# EAGLE library part PAN1326B (library panasonic)
BLUETOOTH MODULE
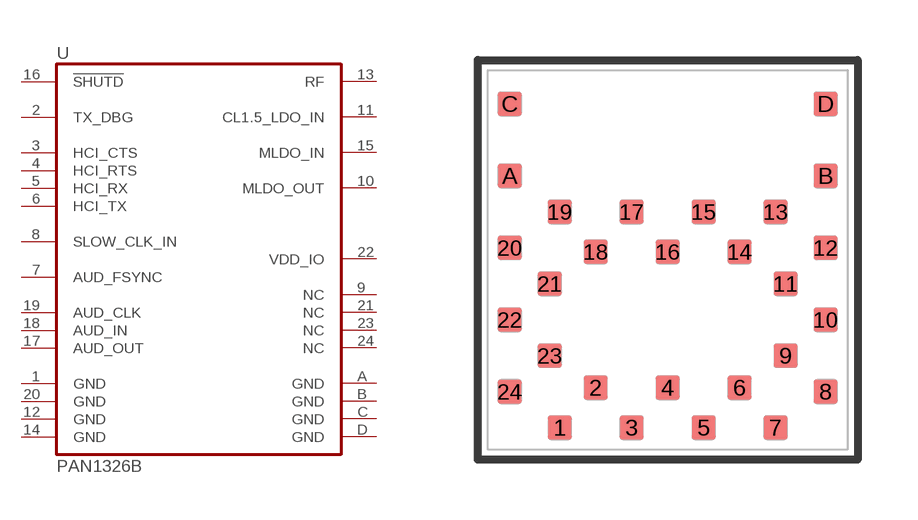
[diagram p2: symbol with the pads of PAN1326B; footprint PAN1326B]

Designator prefix U

## PAN1326B  [PAN1326B]
1  GND  pwr
2  TX_DBG  out
3  HCI_CTS  in
4  HCI_RTS  out
5  HCI_RX  in
6  HCI_TX  out
7  AUD_FSYNC
8  SLOW_CLK_IN  in
9  NC  nc
10  MLDO_OUT  pas
11  CL1.5_LDO_IN  in
12  GND  pwr
13  RF
14  GND  pwr
15  MLDO_IN  in
16  !SHUTD!  in
17  AUD_OUT  out
18  AUD_IN  in
19  AUD_CLK
20  GND  pwr
21  NC  nc
22  VDD_IO
23  NC  nc
24  NC  nc
A  GND  pwr
B  GND  pwr
C  GND  pwr
D  GND  pwr

## Footprint PAN1326B (pad centres in mm)
PAN132X WITH ANTENNA
smd 0.6 x 0.6: 1 -2.7,-2.7; 2 -1.8,-1.7; 3 -0.9,-2.7; 4 0,-1.7; 5 0.9,-2.7; 6 1.8,-1.7; 7 2.7,-2.7; 8 3.95,-1.8; 9 2.95,-0.9; 10 3.95,0; 11 2.95,0.9; 12 3.95,1.8; 13 2.7,2.7; 14 1.8,1.7; 15 0.9,2.7; 16 0,1.7; 17 -0.9,2.7; 18 -1.8,1.7; 19 -2.7,2.7; 20 -3.95,1.8; 21 -2.95,0.9; 22 -3.95,0; 23 -2.95,-0.9; 24 -3.95,-1.8; A -3.95,3.6; B 3.95,3.6; C -3.95,5.4; D 3.95,5.4